# Altium footprint library BB-HEADER-P17-P32.PcbLib: 1 footprints
Each footprint in its own frame and in the unit in brackets; x right, y up, seen from the top. Pads: shape width x height; smd on the part's side, far side on the other; paste and mask are expansions set on the pad; w line width, h text height; cw(c..) or ccw(c..) is an arc to the next point about the centre after c.
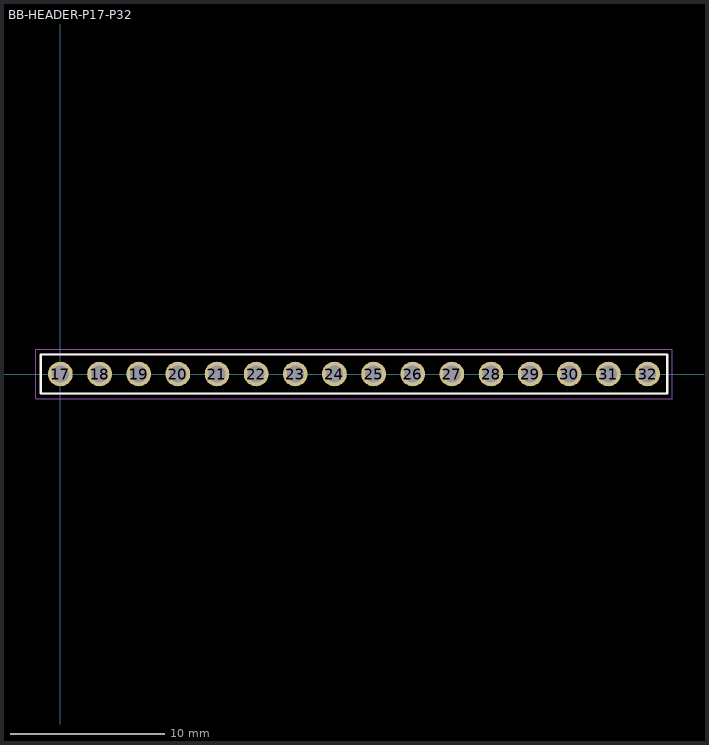
[diagram p0: the footprint, top view; thin cyan lines are the x and y axes]

## BB-HEADER-P17-P32 [mm] "BB Header, Vertical, Male, 0.1\", 2.54mm, P17-P32"
height 11.6
pads (16):
  round 1.6 hole 1.1: 17(0,0) 18(2.54,0) 19(5.08,0) 20(7.62,0) 21(10.16,0) 22(12.7,0) 23(15.24,0) 24(17.78,0) 25(20.32,0) 26(22.86,0) 27(25.4,0) 28(27.94,0) 29(30.48,0) 30(33.02,0) 31(35.56,0) 32(38.1,0)
Top Overlay:
  lines w0.152: -1.27,-1.27 39.37,-1.27 39.37,1.27 0.635,1.27 -1.27,1.27 -1.27,-1.27
Mechanical 13:
  lines w0.1: -1.27,-1.27 -1.27,1.27 39.37,1.27 39.37,-1.27 -1.27,-1.27
Mechanical 15:
  lines w0.05: -1.595,-1.595 -1.595,1.595 39.695,1.595 39.695,-1.595 -1.595,-1.595
3D body: height 8.54, standoff -3, extent -1.27,-1.27 39.37,1.27